# Altium footprint library 22-Pcblib_Audio.PcbLib: 32 footprints (part 1 of 2)
Each footprint in its own frame and in the unit in brackets; x right, y up, seen from the top. Pads: shape width x height; smd on the part's side, far side on the other; paste and mask are expansions set on the pad; w line width, h text height; cw(c..) or ccw(c..) is an arc to the next point about the centre after c.
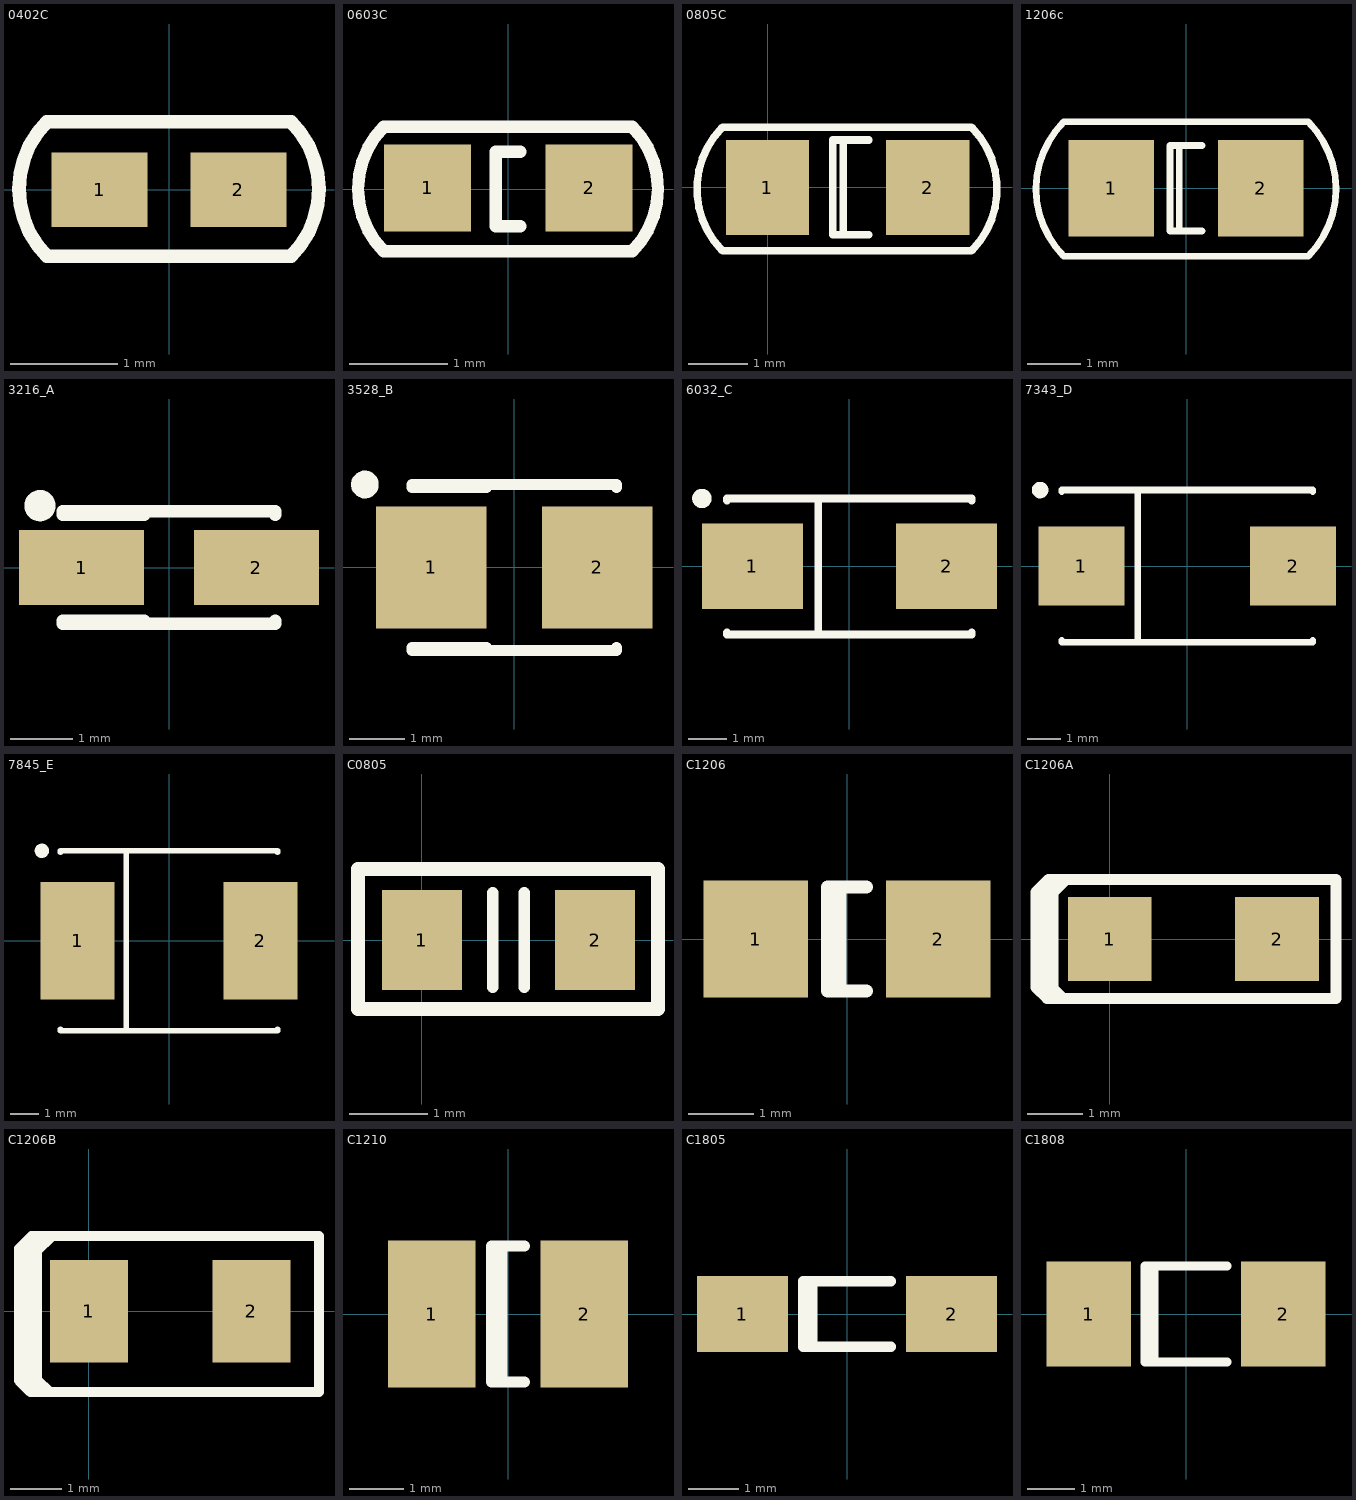
[diagram p0: the footprints below, top view; thin cyan lines are the x and y axes]

## 0402C [mm] "Chip Capacitor; Body 1.0 x 0.5 mm (LxW typ)"
height 0.55
pads (2):
  rect 0.9x0.7 smd: 1(-0.65,0) 2(0.65,0)
Top Overlay:
  lines w0.127: -1.143,-0.622 cw(c-0.514,0.006) -1.143,0.635 1.143,0.635 cw(c0.514,0.006) 1.143,-0.622 -1.143,-0.622

## 0603C [mil]
pads (2):
  rect 35x35 smd: 1(-32.39,0.47) 2(32.61,0.47)
Top Overlay:
  lines w5: 5,-15 -5,-15 -5,15 5,15 ; -50,-25 cw(c-25,0) -50,25 50,25 cw(c25,0) 50,-25 -50,-25

## 0805C [mm]
pads (2):
  rect 1.4x1.6 smd: 1(-0.006,-0.001) 2(2.694,-0.001)
Top Overlay:
  lines w0.127: 1.27,-0.8 1.27,0.8 ; 1.697,-0.8 1.097,-0.8 1.097,0.8 1.697,0.8 ; -0.762,-1.067 cw(c0.28,-0.026) -0.762,1.016 3.429,1.016 cw(c2.387,-0.026) 3.429,-1.067 -0.762,-1.067

## 1206c [mm] "Chip Capacitor; Body 3.2 x 1.6 mm (LxW typ)"
height 1.3
pads (2):
  rect 1.6x1.8 smd: 1(-1.4,0) 2(1.4,0)
Top Overlay:
  lines w0.127: -0.127,-0.8 -0.127,0.8 ; 0.3,-0.8 -0.3,-0.8 -0.3,0.8 0.3,0.8 ; -2.286,-1.27 cw(c-1.029,-0.013) -2.286,1.244 2.286,1.244 cw(c1.029,-0.013) 2.286,-1.27 -2.286,-1.27

## 3216_A [mm] "Capacitor, SM Tantalum; Body 3.2 x 1.6 mm (LxW typ)"
height 1.8
pads (2):
  rect 2x1.2 smd: 1(-1.4,0) 2(1.4,0)
Top Overlay:
  circle w0.25: c-2.065,0.992 r0.125
  lines w0.2: -1.7,-0.9 1.7,-0.9 1.7,-0.85 ; -1.7,-0.85 -0.4,-0.85 ; -1.7,0.85 -0.4,0.85 ; -1.7,0.9 1.7,0.9 1.7,0.85

## 3528_B [mm] "Capacitor, SM Tantalum; Body 3.5 x 2.8 mm (LxW typ)"
height 2.1
pads (2):
  rect 2x2.2 smd: 1(-1.5,0) 2(1.5,0)
Top Overlay:
  circle w0.25: c-2.7,1.5 r0.125
  lines w0.2: -1.85,-1.5 1.85,-1.5 1.85,-1.45 ; -1.85,-1.45 -0.5,-1.45 ; -1.85,1.45 -0.5,1.45 ; -1.85,1.5 1.85,1.5 1.85,1.45

## 6032_C [mm] "Capacitor, SM Tantalum; Body 6.0 x 3.2 mm (LxW typ)"
height 2.8
pads (2):
  rect 2.6x2.2 smd: 1(-2.5,0) 2(2.5,0)
Top Overlay:
  circle w0.25: c-3.8,1.75 r0.125
  lines w0.2: -3.15,-1.7 -3.15,-1.75 3.15,-1.75 3.15,-1.7 ; -3.15,1.7 -3.15,1.75 3.15,1.75 3.15,1.7 ; -0.8,-1.75 -0.8,1.75

## 7343_D [mm] "Capacitor, SM Tantalum; Body 7.3 x 4.3 mm (LxW typ)"
height 3.1
pads (2):
  rect 2.6x2.4 smd: 1(-3.2,0) 2(3.2,0)
Top Overlay:
  circle w0.25: c-4.45,2.3 r0.125
  lines w0.2: -3.8,-2.25 -3.8,-2.3 3.8,-2.3 3.8,-2.25 ; -3.8,2.25 -3.8,2.3 3.8,2.3 3.8,2.25 ; -1.5,-2.3 -1.5,2.3

## 7845_E [mm] "Capacitor, SM Tantalum; Body 7.3 x 6.0 mm (LxW typ)"
height 3.8
pads (2):
  rect 2.6x4.1 smd: 1(-3.2,0) 2(3.2,0)
Top Overlay:
  circle w0.25: c-4.45,3.15 r0.125
  lines w0.2: -3.8,-3.1 -3.8,-3.15 3.8,-3.15 3.8,-3.1 ; -3.8,3.1 -3.8,3.15 3.8,3.15 3.8,3.1 ; -1.5,-3.15 -1.5,3.15

## C0805 [mil]
pads (2):
  rect 40x50 smd: 1(0,0) 2(86.51,0)
Top Overlay:
  lines w5.91: 35.38,-23.62 35.38,23.62 ; 51.13,-23.62 51.13,23.62
  lines w7: -32,-34.5 118,-34.5 118,35.5 -32,35.5 -32,0.5 -32,-34.5

## C1206 [mm] "Chip Capacitor; Body 3.2 x 1.6 mm (LxW typ)"
height 1.3
pads (2):
  rect 1.6x1.8 smd: 1(-1.4,0) 2(1.4,0)
Top Overlay:
  lines w0.2: -0.11,-0.8 -0.11,0.8 ; 0.3,-0.8 -0.3,-0.8 -0.3,0.8 0.3,0.8

## C1206A [mm]
pads (2):
  rect 1.5x1.5 smd: 1(0,0) 2(3,0)
Top Overlay:
  lines w0.203: -1.143,-0.889 -1.143,0.889 ; -1.016,-0.635 -1.016,-0.888 -0.837,-1.067 -1.116,-1.067 -1.319,-0.864 -1.319,0.838 -1.091,1.067 -1.016,1.067 ; -1.016,0.533 -1.016,0.837 -0.786,1.067 ; -1.016,1.067 -1.016,-1.041 -0.991,-1.067 0.914,-1.067 2.176,-1.067 4.056,-1.067 4.056,1.041 4.056,1.067 2.151,1.067 0.914,1.067 -1.016,1.067

## C1206B [mm]
pads (2):
  rect 1.524x2 smd: 1(0,0) 2(3.175,0)
Top Overlay:
  lines w0.025: -1,-1 -1,1
  lines w0.203: -1.367,-1.21 -1.367,1.124 -1.212,1.2 -1.212,-1.4 -1.143,-1.524 -1.143,1.397 -1.067,1.473 ; -1.367,-0.965 -1.367,-1.351 -1.143,-1.575 ; -1.016,-0.737 -1.016,-1.333 -0.775,-1.575 ; -1.016,0.61 -1.016,1.181 -0.724,1.473 ; 2.134,1.473 4.42,1.473 4.496,1.473 4.496,-1.575 4.445,-1.575 2.159,-1.575 ; 2.73,1.473 0.838,1.473 -1.067,1.473 ; 2.781,-1.575 0.787,-1.575 -1.118,-1.575 -1.143,-1.575 ; -1.143,-1.575 -1.092,-1.575 ; -1.143,-1.575 -1.092,-1.575 ; -1.118,1.473 -1.016,1.473 -1.016,-1.499 -1.092,-1.575 ; -1.118,1.473 -1.367,1.224 -1.367,-1.3 -1.092,-1.575 ; -1.118,1.473 -1.067,1.473 ; -1.118,1.473 -1.067,1.473

## C1210 [mm] "Chip Capacitor; Body 3.2 x 2.5 mm (LxW typ)"
height 1.5
pads (2):
  rect 1.6x2.7 smd: 1(-1.4,0) 2(1.4,0)
Top Overlay:
  lines w0.2: -0.11,-1.25 -0.11,1.25 ; 0.3,-1.25 -0.3,-1.25 -0.3,1.25 0.3,1.25

## C1805 [mm] "Chip Capacitor; Body 4.5 x 1.3 mm (LxW typ)"
height 1.4
pads (2):
  rect 1.8x1.5 smd: 1(-2.075,0) 2(2.075,0)
Top Overlay:
  lines w0.2: -0.685,-0.65 -0.685,0.65 ; 0.875,-0.65 -0.875,-0.65 -0.875,0.65 0.875,0.65

## C1808 [mm] "Chip Capacitor; Body 4.5 x 2.0 mm (LxW typ)"
height 2.03
pads (2):
  rect 1.8x2.25 smd: 1(-2.075,0) 2(2.075,0)
Top Overlay:
  lines w0.2: -0.685,-1.025 -0.685,1.025 ; 0.875,-1.025 -0.875,-1.025 -0.875,1.025 0.875,1.025